# Altium footprint library RF Components.PcbLib: 14 footprints
Each footprint in its own frame and in the unit in brackets; x right, y up, seen from the top. Pads: shape width x height; smd on the part's side, far side on the other; paste and mask are expansions set on the pad; w line width, h text height; cw(c..) or ccw(c..) is an arc to the next point about the centre after c.
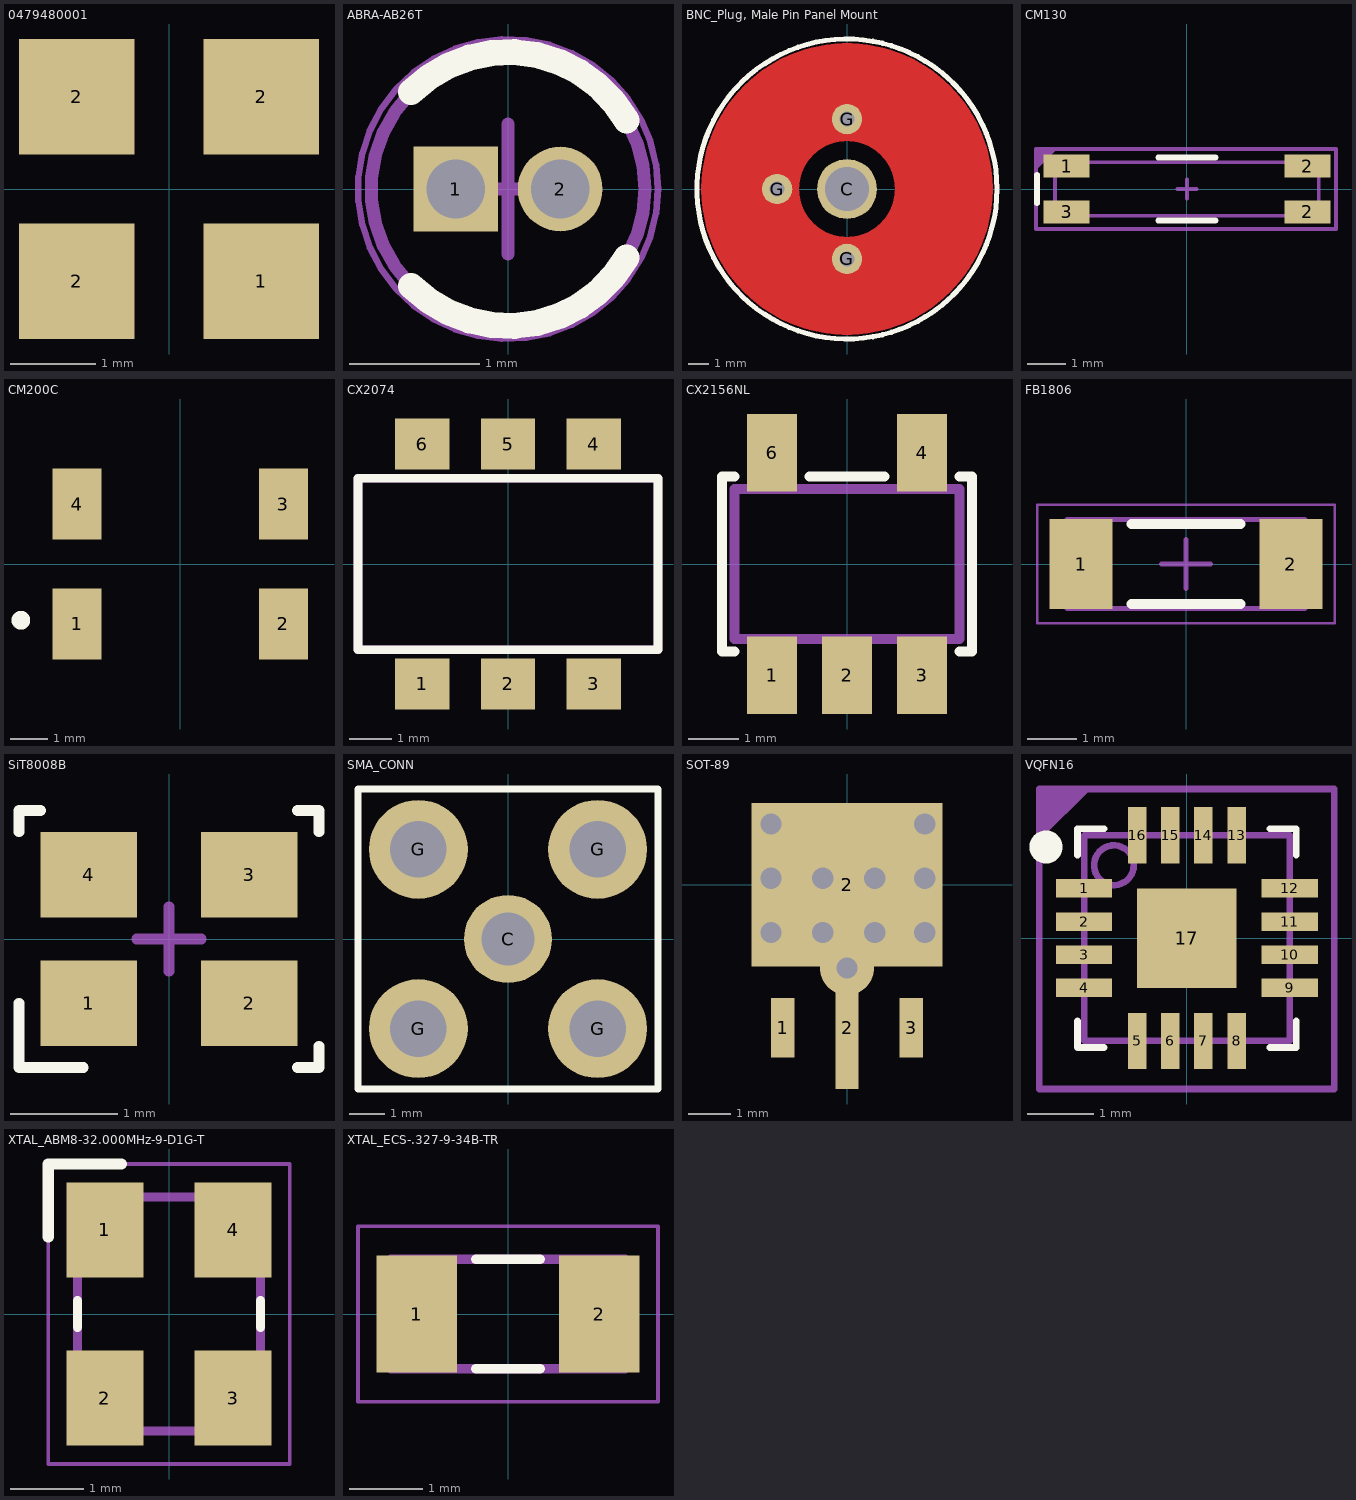
[diagram p0: the footprints below, top view; thin cyan lines are the x and y axes]

## 0479480001 [mm] "Molex 0479480001 2.4GHz Chip Antenna"
pads (4):
  rect 1.35x1.35 smd: 1(1.075,-1.075) 2(-1.075,-1.075) 2(-1.075,1.075) 2(1.075,1.075)
3D body "479480001 (1).stp": height 4, standoff 0, extent -1.576,-1.576 1.576,1.576

## ABRA-AB26T [mm] "THD, 2-Leads, Dia 2.1mm, Body Length 6.2mm"
height 6.2
pads (2):
  rect 0.65x0.65 hole 0.45: 1(-0.4,0)
  round 0.65 hole 0.45: 2(0.4,0)
Top Overlay:
  lines w0.2: -0.742,-0.742 ccw(c0,0) 0.909,-0.525 ; -0.742,0.742 cw(c0,0) 0.909,0.525
3D Info:
  circle w0.1: c0,0 r1.05
Component Info:
  circle w0.05: c0,0 r1.15
  lines w0.1: -0.5,0 0.5,0 ; 0,-0.5 0,0.5
3D body "AB26T.STEP": height 6.2, standoff -6, extent -1.05,-1.05 1.05,1.06

## BNC_Plug, Male Pin Panel Mount [mil] "BNC Connector Plug, Male Pin 50Ohm Panel Mount Solder Cup"
pads (4):
  round 118.11 hole 86.61: C(0,0)
  round 60 hole 30: G(-137.8,0) G(-0.01,-137.8) G(0,137.8)
Top Layer:
  circle w192.91: c0,0 r190.94
Top Overlay:
  circle w10: c0,0 r295.6
Top Solder:
  circle w192.91: c0,0 r190.94
3D body "112420 BNC v8.step": height 1016.33, standoff -172.84, extent -288.67,-284.63 582.68,284.23

## CM130 [mm] "3 terminal crystal oscillator"
pads (4):
  rect 1.2x0.6 smd: 1(-3.15,0.6) 2(3.15,-0.6) 2(3.15,0.6) 3(-3.15,-0.6)
Top Overlay:
  lines w0.152: -3.925,-0.375 -3.925,0.375 ; -0.75,-0.825 0.75,-0.825 ; -0.75,0.825 0.75,0.825
Mechanical 3:
  region: -3.95,0.5 -3.4,1.05 -3.95,1.05
  lines w0.1: -0.25,0 0.25,0 ; 0,-0.25 0,0.25 ; -3.95,-1.05 -3.95,1.05 3.9,1.05 3.9,-1.05 -3.95,-1.05
  text ".Designator" at -1.956,-0.279 h0.38
Mechanical 5:
  lines w0.1: -3.45,-0.7 3.45,-0.7 3.45,0.7 -3.45,0.7 -3.45,-0.7
3D body "6P9mmX1p4mm_IN1UP_RTC.STEP": height 1.3, standoff -0.05, extent -3.45,-0.7 3.45,0.7

## CM200C [mm] "CRYSTAL 32.7680KHZ 12.5PF SMD"
height 2.5
pads (4):
  rect 1.3x1.9 smd: 1(-2.75,-1.6) 2(2.75,-1.6) 3(2.75,1.6) 4(-2.75,1.6)
Top Overlay:
  circle w0.4: c-4.25,-1.5 r0.05
3D body "Citizen CM200C.sldprt": height 2.5, standoff 0, extent -3.981,-1.85 3.95,1.85

## CX2074 [mm]
pads (6):
  rect 1.27x1.2 smd: 1(-2,-2.8) 2(0,-2.8) 3(2,-2.8) 4(2,2.8) 5(0,2.8) 6(-2,2.8)
Top Overlay:
  lines w0.2: -3.5,-2 -3.5,2 3.5,2 3.5,-2 -3.5,-2
Mechanical 5:
  lines w0.2: -3.5,-2 3.5,-2 3.5,2 -3.5,2 -3.5,-2
3D body: height 4.4, standoff 0.01, extent -3.499,-1.999 3.499,1.999

## CX2156NL [mm]
pads (5):
  rect 1x1.55 smd: 1(-1.5,-2.225) 2(0,-2.225) 3(1.5,-2.225) 4(1.5,2.225) 6(-1.5,2.225)
Top Overlay:
  lines w0.2: -2.25,-1.75 -2.5,-1.75 -2.5,1.75 -2.25,1.75 ; -0.75,1.75 0.75,1.75 ; 2.25,-1.75 2.5,-1.75 2.5,1.75 2.25,1.75
Mechanical 5:
  lines w0.2: -2.25,-1.5 2.25,-1.5 2.25,1.5 -2.25,1.5 -2.25,-1.5
3D body: height 3.5, standoff 0.08, extent -2.35,-1.6 2.35,1.6

## FB1806 [mm] "Chip Inductor, 2-Leads, Body 4.50x1.60mm, IPC Medium Density"
height 1.3
pads (2):
  rect 1.27x1.82 smd: 1(-2.12,0) 2(2.12,0)
Top Overlay:
  lines w0.2: -1.1,-0.81 1.1,-0.81 ; -1.1,0.81 1.1,0.81
3D Info:
  lines w0.1: -2.4,-0.9 2.4,-0.9 2.4,0.9 -2.4,0.9 -2.4,-0.9
Component Info:
  lines w0.05: -3,-1.2 3,-1.2 3,1.2 -3,1.2 -3,-1.2
  lines w0.1: -0.5,0 0.5,0 ; 0,-0.5 0,0.5
3D body "FB1806.step": height 1.3, standoff 0, extent -2.4,-0.9 2.4,0.9

## SiT8008B [mm] "2.0 x 1.6 x 0.75 mm"
height 0.8
pads (4):
  rect 0.9x0.8 smd: 1(-0.75,-0.6) 2(0.75,-0.6) 3(0.75,0.6) 4(-0.75,0.6)
Top Overlay:
  lines w0.1: -1.4,-0.6 -1.4,-1.2 -0.8,-1.2 ; -1.4,1 -1.4,1.2 -1.2,1.2 ; 1.2,-1.2 1.4,-1.2 1.4,-1 ; 1.2,1.2 1.4,1.2 1.4,1
Component Info:
  lines w0.1: -0.3,0 0.3,0 ; 0,-0.3 0,0.3
3D body "Crystal IQXC-42.stp": height 0.51, standoff 0.01, extent -1,-0.8 1,0.8

## SMA_CONN [mm]
pads (5):
  round 2.5 hole 1.5: C(0,0)
  round 2.8 hole 1.6: G(-2.54,-2.54) G(-2.54,2.54) G(2.54,-2.54) G(2.54,2.54)
Top Overlay:
  lines w0.2: -4.25,-4.25 -4.25,4.25 4,4.25 4.25,4.25 4.25,-4.25 -4.25,-4.25
3D body "Molex - 73391-0060.STEP": height 9.01, standoff -3.54, extent -3.04,-3.04 3.04,3.04

## SOT-89 [mm] "SPF5189Z"
pads (4):
  rect 0.55x1.4 all layers, no hole: 1(-1.5,-3.35) 3(1.5,-3.35)
  rect 0.55x2.87 all layers, no hole: 2(0,-3.35)
  rect 4.48x3.83 all layers, no hole: 2(0,0)
via -1.78,0.15 diameter 0.5 hole 0.5
via -0.566,0.15 diameter 0.5 hole 0.5
via 0.65,0.15 diameter 0.5 hole 0.5
via 1.82,0.15 diameter 0.5 hole 0.5
via 0,-1.95 diameter 1.27 hole 0.5
via -1.78,-1.12 diameter 0.5 hole 0.5
via -0.566,-1.12 diameter 0.5 hole 0.5
via 0.65,-1.12 diameter 0.5 hole 0.5
via 1.82,-1.12 diameter 0.5 hole 0.5
via -1.78,1.42 diameter 0.5 hole 0.5
via 1.82,1.42 diameter 0.5 hole 0.5
3D body "SOT-89.step": height 1.35, standoff 0, extent -2.3,-3.95 2.3,0.3

## VQFN16 [mm] "16 pin QFN with thermal pad, 3x3mm"
pads (17):
  rect 0.85x0.28 smd: 1(-1.55,0.75) 2(-1.55,0.25) 3(-1.55,-0.25) 4(-1.55,-0.75) 9(1.55,-0.75) 10(1.55,-0.25) 11(1.55,0.25) 12(1.55,0.75)
  rect 0.28x0.85 smd: 5(-0.75,-1.55) 6(-0.25,-1.55) 7(0.25,-1.55) 8(0.75,-1.55) 13(0.75,1.55) 14(0.25,1.55) 15(-0.25,1.55) 16(-0.75,1.55)
  rect 1.5x1.5 smd paste-1: 17(0,0)
Top Overlay:
  circle w0.25: c-2.125,1.375 r0.125
  lines w0.1: -1.65,-1.25 -1.65,-1.65 -1.25,-1.65 ; -1.65,1.25 -1.65,1.65 -1.25,1.65 ; 1.25,-1.65 1.65,-1.65 1.65,-1.25 ; 1.25,1.65 1.65,1.65 1.65,1.25
Top Paste:
  region: 0.75,0.75 0.05,0.75 0.05,0.05 0.75,0.05
  region: -0.05,0.75 -0.75,0.75 -0.75,0.05 -0.05,0.05
  region: -0.05,-0.05 -0.75,-0.05 -0.75,-0.75 -0.05,-0.75
  region: 0.75,-0.05 0.05,-0.05 0.05,-0.75 0.75,-0.75
Mechanical 3:
  region: -2.2,1.5 -1.45,2.25 -2.2,2.25
3D Info:
  circle w0.1: c-1.1,1.1 r0.3
  lines w0.1: -1.55,-1.55 1.55,-1.55 1.55,1.55 -1.55,1.55 -1.55,-1.55
Component Info:
  lines w0.1: -0.5,0 0.5,0 ; 0,-0.5 0,0.5 ; -2.225,-2.275 2.225,-2.275 2.225,2.25 -2.225,2.25 -2.225,-2.275
  text ".Designator" at -1.956,-0.279 h0.38
3D body "QFN50P300X300X100_HS-17N.step": height 1, standoff 0, extent -1.6,-1.6 1.6,1.6

## XTAL_ABM8-32.000MHz-9-D1G-T [mm]
height 0.8
pads (4):
  rect 1.05x1.3 smd: 1(-0.875,1.15) 2(-0.875,-1.15) 3(0.875,-1.15) 4(0.875,1.15)
Top Overlay:
  lines w0.127: -1.25,-0.18 -1.25,0.18 ; 1.25,-0.18 1.25,0.18
  lines w0.152: -1.65,1.05 -1.65,2.05 -0.65,2.05
3D Info:
  lines w0.127: -1.25,-1.6 1.25,-1.6 1.25,1.6 -1.25,1.6 -1.25,-1.6
Component Info:
  lines w0.05: -1.65,-2.05 1.65,-2.05 1.65,2.05 -1.65,2.05 -1.65,-2.05
3D body "ABM8-32.000MHz-9-D1G-T.step": height 0.8, standoff 0, extent -1.25,-1.6 1.25,1.6

## XTAL_ECS-.327-9-34B-TR [mm]
pads (2):
  rect 1.1x1.6 smd: 1(-1.25,0) 2(1.25,0)
Top Overlay:
  lines w0.127: -0.44,-0.75 0.44,-0.75 ; -0.44,0.75 0.44,0.75
3D Info:
  lines w0.127: -1.6,-0.75 1.6,-0.75 1.6,0.75 -1.6,0.75 -1.6,-0.75
Component Info:
  lines w0.05: -2.05,-1.2 -2.05,1.2 2.05,1.2 2.05,-1.2 -2.05,-1.2
3D body "step_temp.STEP": height 0.9, standoff 0, extent -1.6,-0.75 1.6,0.75